# EAGLE library part 428521320816 (library Wurth_Switch_WS-ROSV)
WS-ROSV SMT Rotary Switch with Arrow Type Actuator 10x10 mm Material Properties Cover Material : LCP Packaging Properties Packaging :Tape and Reel Electrical Properties IR 1 :150 mA Properties Cover Flammability Rating:UL94 V-0 Cover Color:Grey Actuator Material:PA66 Actuator Flammability Rating:UL94 V-0 Actuator Color:Blue; Light Grey Base Material:LCP Base Flammability Rating:UL94 V-0 Base Color:Grey Moveable Contact Material:FR4 Epoxy Resin Moveable Contact Plating:Gold Terminal Material:Copper Alloy Terminal Plating:Gold Actuator Type:Arrow Type Washable:Yes Additional VR：24 V (DC) Mechanical Properties Electrical Life：10000 Steps Actuator Type：Arrow Type Code：Complement Code; Real Code General Information Operating Temperature:-40 up to +85 °C Tableadditional Actuator Type：Arrow Type Washable：Yes <https://www.we-online.com/catalog/media/o55748v209%20Family_WS-ROSV_SMD_Rotary_Switch_428542320810.jpg> Details see: https://www.we-online.com/catalog/en/ROSV_10X10_WASHABLE_SMD_ARROW_TYPE/ Updated by yingchun,Shan;2020-02-24 2020(C) Würth Elektronik
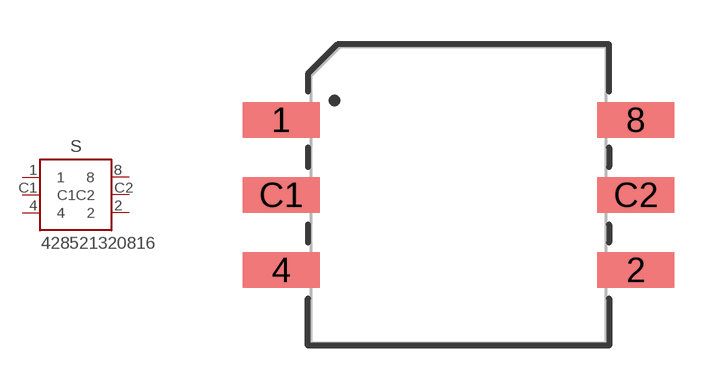
[diagram p11: symbol with the pads of 42852132081X_16POS; footprint 42852132081X_16POS]

Designator prefix S

## 428521320816 (DATASHEET-URL: https://www.we-online.com/redexpert/spec/428521320816?ae; NUMBER-OF-POSITION: 16; PART-NUMBER: 428521320816; QTY: 600)  [42852132081X_16POS]
1  1  pas
2  2  pas
4  4  pas
8  8  pas
C1  C1  pas
C2  C2  pas

## Footprint 42852132081X_16POS (pad centres in mm)
WS-ROSV SMT Rotary Switch with Arrow Type Actuator 10x10 mm
smd 2.6 x 1.2: 1 -6,2.54; 2 6,-2.54; 4 -6,-2.54; 8 6,2.54; C1 -6,0; C2 6,0